# Altium schematic symbol library embeddedsystem.SchLib: 5 symbols
Pins are listed as number, name and electrical type; pins without a type are passive.

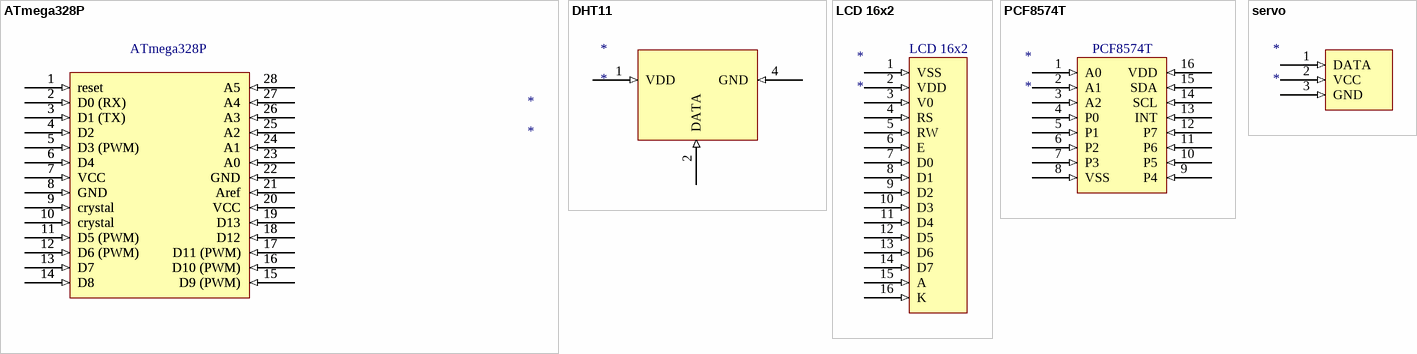
[diagram p0: symbols ATmega328P to servo]

## ATmega328P
designator *
pins: 1 reset (in), 1 reset (in), 2 D0 (RX) (in), 2 D0 (RX) (in), 3 D1 (TX) (in), 3 D1 (TX) (in), 4 D2 (in), 4 D2 (in), 5 D3 (PWM) (in), 5 D3 (PWM) (in), 6 D4 (in), 6 D4 (in), 7 VCC (in), 7 VCC (in), 8 GND (in), 8 GND (in), 9 crystal (in), 9 crystal (in), 10 crystal (in), 10 crystal (in), 11 D5 (PWM) (in), 11 D5 (PWM) (in), 12 D6 (PWM) (in), 12 D6 (PWM) (in), 13 D7 (in), 13 D7 (in), 14 D8 (in), 14 D8 (in), 15 D9 (PWM) (in), 15 D9 (PWM) (in), 16 D10 (PWM) (in), 16 D10 (PWM) (in), 17 D11 (PWM) (in), 17 D11 (PWM) (in), 18 D12 (in), 18 D12 (in), 19 D13 (in), 19 D13 (in), 20 VCC (in), 20 VCC (in), 21 Aref (in), 21 Aref (in), 22 GND (in), 22 GND (in), 23 A0 (in), 23 A0 (in), 24 A1 (in), 24 A1 (in), 25 A2 (in), 25 A2 (in), 26 A3 (in), 26 A3 (in), 27 A4 (in), 27 A4 (in), 28 A5 (in), 28 A5 (in)

## DHT11
designator *
pins: 1 VDD (in), 2 DATA (in), 4 GND (in)

## LCD 16x2
designator *
pins: 1 VSS (in), 2 VDD (in), 3 V0 (in), 4 RS (in), 5 RW (in), 6 E (in), 7 D0 (in), 8 D1 (in), 9 D2 (in), 10 D3 (in), 11 D4 (in), 12 D5 (in), 13 D6 (in), 14 D7 (in), 15 A (in), 16 K (in)

## PCF8574T
designator *
pins: 1 A0 (in), 2 A1 (in), 3 A2 (in), 4 P0 (in), 5 P1 (in), 6 P2 (in), 7 P3 (in), 8 VSS (in), 9 P4 (in), 10 P5 (in), 11 P6 (in), 12 P7 (in), 13 INT (in), 14 SCL (in), 15 SDA (in), 16 VDD (in)

## servo
designator *
pins: 1 DATA (in), 2 VCC (in), 3 GND (in)